# Altium footprint library Cypress Footprints.PcbLib: 193 footprints (part 7 of 13)
Each footprint in its own frame and in the unit in brackets; x right, y up, seen from the top. Pads: shape width x height; smd on the part's side, far side on the other; paste and mask are expansions set on the pad; w line width, h text height; cw(c..) or ccw(c..) is an arc to the next point about the centre after c.
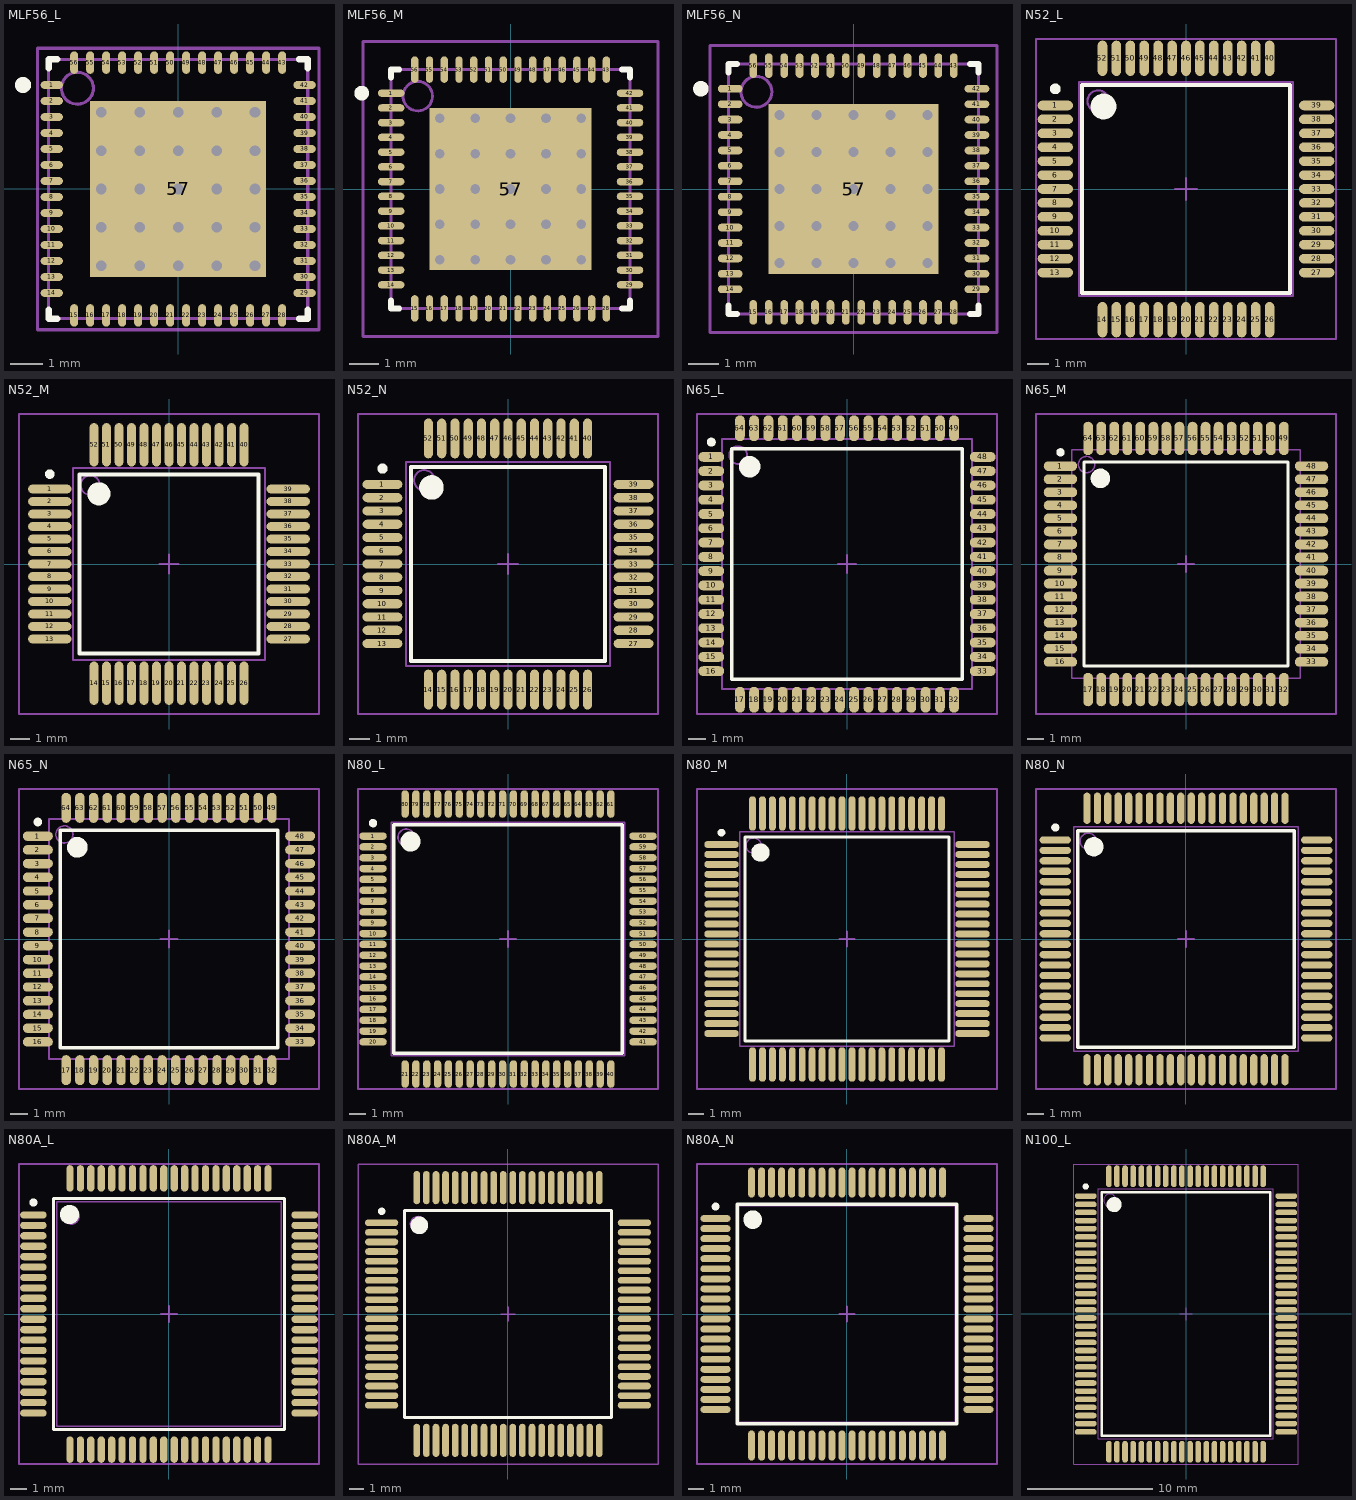
[diagram p6: the footprints below, top view; thin cyan lines are the x and y axes]

## MLF56_L [mm] "56-Pin Punch Version Quad Flat No-Lead 0.5 mm Pitch, IPC High Density"
height 1
pads (57):
  oval 0.7x0.25 smd: 1(-3.95,3.25) 2(-3.95,2.75) 3(-3.95,2.25) 4(-3.95,1.75) 5(-3.95,1.25) 6(-3.95,0.75) 7(-3.95,0.25) 8(-3.95,-0.25) 9(-3.95,-0.75) 10(-3.95,-1.25) 11(-3.95,-1.75) 12(-3.95,-2.25) 13(-3.95,-2.75) 14(-3.95,-3.25) 29(3.95,-3.25) 30(3.95,-2.75) 31(3.95,-2.25) 32(3.95,-1.75) 33(3.95,-1.25) 34(3.95,-0.75) 35(3.95,-0.25) 36(3.95,0.25) 37(3.95,0.75) 38(3.95,1.25) 39(3.95,1.75) 40(3.95,2.25) 41(3.95,2.75) 42(3.95,3.25)
  oval 0.25x0.7 smd: 15(-3.25,-3.95) 16(-2.75,-3.95) 17(-2.25,-3.95) 18(-1.75,-3.95) 19(-1.25,-3.95) 20(-0.75,-3.95) 21(-0.25,-3.95) 22(0.25,-3.95) 23(0.75,-3.95) 24(1.25,-3.95) 25(1.75,-3.95) 26(2.25,-3.95) 27(2.75,-3.95) 28(3.25,-3.95) 43(3.25,3.95) 44(2.75,3.95) 45(2.25,3.95) 46(1.75,3.95) 47(1.25,3.95) 48(0.75,3.95) 49(0.25,3.95) 50(-0.25,3.95) 51(-0.75,3.95) 52(-1.25,3.95) 53(-1.75,3.95) 54(-2.25,3.95) 55(-2.75,3.95) 56(-3.25,3.95)
  rect 5.5x5.5 smd: 57(0,0)
via 2.4,-2.4 diameter 0.66 hole 0.33
via 1.2,-2.4 diameter 0.66 hole 0.33
via 0,-2.4 diameter 0.66 hole 0.33
via -1.2,-2.4 diameter 0.66 hole 0.33
via -2.4,-2.4 diameter 0.66 hole 0.33
via 2.4,-1.2 diameter 0.66 hole 0.33
via 1.2,-1.2 diameter 0.66 hole 0.33
via 0,-1.2 diameter 0.66 hole 0.33
via -1.2,-1.2 diameter 0.66 hole 0.33
via -2.4,-1.2 diameter 0.66 hole 0.33
via 2.4,0 diameter 0.66 hole 0.33
via 1.2,0 diameter 0.66 hole 0.33
via 0,0 diameter 0.66 hole 0.33
via -1.2,0 diameter 0.66 hole 0.33
via -2.4,0 diameter 0.66 hole 0.33
via 2.4,1.2 diameter 0.66 hole 0.33
via 1.2,1.2 diameter 0.66 hole 0.33
via 0,1.2 diameter 0.66 hole 0.33
via -1.2,1.2 diameter 0.66 hole 0.33
via -2.4,1.2 diameter 0.66 hole 0.33
via 2.4,2.4 diameter 0.66 hole 0.33
via 1.2,2.4 diameter 0.66 hole 0.33
via 0,2.4 diameter 0.66 hole 0.33
via -1.2,2.4 diameter 0.66 hole 0.33
via -2.4,2.4 diameter 0.66 hole 0.33
Top Overlay:
  circle w0.25: c-4.85,3.25 r0.125
  lines w0.2: -4.05,-3.775 -4.05,-4.05 -3.775,-4.05 ; -4.05,3.775 -4.05,4.05 -3.775,4.05 ; 3.775,-4.05 4.05,-4.05 4.05,-3.775 ; 3.775,4.05 4.05,4.05 4.05,3.775
Mechanical 13:
  circle w0.1: c-3.15,3.15 r0.5
  lines w0.1: -4.05,-4.05 4.05,-4.05 4.05,4.05 -4.05,4.05 -4.05,-4.05
Mechanical 15:
  lines w0.1: -0.5,0 0.5,0 ; 0,-0.5 0,0.5 ; -4.4,-4.4 4.4,-4.4 4.4,4.4 -4.4,4.4 -4.4,-4.4
3D body: height 1, standoff 0, extent -4.05,-4.05 4.05,4.05

## MLF56_M [mm] "56-Pin Punch Version Quad Flat No-Lead 0.5 mm Pitch, IPC Low Density"
height 1
pads (57):
  oval 0.9x0.25 smd: 1(-4.05,3.25) 2(-4.05,2.75) 3(-4.05,2.25) 4(-4.05,1.75) 5(-4.05,1.25) 6(-4.05,0.75) 7(-4.05,0.25) 8(-4.05,-0.25) 9(-4.05,-0.75) 10(-4.05,-1.25) 11(-4.05,-1.75) 12(-4.05,-2.25) 13(-4.05,-2.75) 14(-4.05,-3.25) 29(4.05,-3.25) 30(4.05,-2.75) 31(4.05,-2.25) 32(4.05,-1.75) 33(4.05,-1.25) 34(4.05,-0.75) 35(4.05,-0.25) 36(4.05,0.25) 37(4.05,0.75) 38(4.05,1.25) 39(4.05,1.75) 40(4.05,2.25) 41(4.05,2.75) 42(4.05,3.25)
  oval 0.25x0.9 smd: 15(-3.25,-4.05) 16(-2.75,-4.05) 17(-2.25,-4.05) 18(-1.75,-4.05) 19(-1.25,-4.05) 20(-0.75,-4.05) 21(-0.25,-4.05) 22(0.25,-4.05) 23(0.75,-4.05) 24(1.25,-4.05) 25(1.75,-4.05) 26(2.25,-4.05) 27(2.75,-4.05) 28(3.25,-4.05) 43(3.25,4.05) 44(2.75,4.05) 45(2.25,4.05) 46(1.75,4.05) 47(1.25,4.05) 48(0.75,4.05) 49(0.25,4.05) 50(-0.25,4.05) 51(-0.75,4.05) 52(-1.25,4.05) 53(-1.75,4.05) 54(-2.25,4.05) 55(-2.75,4.05) 56(-3.25,4.05)
  rect 5.5x5.5 smd: 57(0,0)
via 2.4,-2.4 diameter 0.66 hole 0.33
via 1.2,-2.4 diameter 0.66 hole 0.33
via 0,-2.4 diameter 0.66 hole 0.33
via -1.2,-2.4 diameter 0.66 hole 0.33
via -2.4,-2.4 diameter 0.66 hole 0.33
via 2.4,-1.2 diameter 0.66 hole 0.33
via 1.2,-1.2 diameter 0.66 hole 0.33
via 0,-1.2 diameter 0.66 hole 0.33
via -1.2,-1.2 diameter 0.66 hole 0.33
via -2.4,-1.2 diameter 0.66 hole 0.33
via 2.4,0 diameter 0.66 hole 0.33
via 1.2,0 diameter 0.66 hole 0.33
via 0,0 diameter 0.66 hole 0.33
via -1.2,0 diameter 0.66 hole 0.33
via -2.4,0 diameter 0.66 hole 0.33
via 2.4,1.2 diameter 0.66 hole 0.33
via 1.2,1.2 diameter 0.66 hole 0.33
via 0,1.2 diameter 0.66 hole 0.33
via -1.2,1.2 diameter 0.66 hole 0.33
via -2.4,1.2 diameter 0.66 hole 0.33
via 2.4,2.4 diameter 0.66 hole 0.33
via 1.2,2.4 diameter 0.66 hole 0.33
via 0,2.4 diameter 0.66 hole 0.33
via -1.2,2.4 diameter 0.66 hole 0.33
via -2.4,2.4 diameter 0.66 hole 0.33
Top Overlay:
  circle w0.25: c-5.05,3.25 r0.125
  lines w0.2: -4.05,-3.775 -4.05,-4.05 -3.775,-4.05 ; -4.05,3.775 -4.05,4.05 -3.775,4.05 ; 3.775,-4.05 4.05,-4.05 4.05,-3.775 ; 3.775,4.05 4.05,4.05 4.05,3.775
Mechanical 13:
  circle w0.1: c-3.15,3.15 r0.5
  lines w0.1: -4.05,-4.05 4.05,-4.05 4.05,4.05 -4.05,4.05 -4.05,-4.05
Mechanical 15:
  lines w0.1: -0.5,0 0.5,0 ; 0,-0.5 0,0.5 ; -5,-5 5,-5 5,5 -5,5 -5,-5
3D body: height 1, standoff 0, extent -4.05,-4.05 4.05,4.05

## MLF56_N [mm] "56-Pin Punch Version Quad Flat No-Lead 0.5 mm Pitch, IPC Medium Density"
height 1
pads (57):
  oval 0.8x0.25 smd: 1(-4,3.25) 2(-4,2.75) 3(-4,2.25) 4(-4,1.75) 5(-4,1.25) 6(-4,0.75) 7(-4,0.25) 8(-4,-0.25) 9(-4,-0.75) 10(-4,-1.25) 11(-4,-1.75) 12(-4,-2.25) 13(-4,-2.75) 14(-4,-3.25) 29(4,-3.25) 30(4,-2.75) 31(4,-2.25) 32(4,-1.75) 33(4,-1.25) 34(4,-0.75) 35(4,-0.25) 36(4,0.25) 37(4,0.75) 38(4,1.25) 39(4,1.75) 40(4,2.25) 41(4,2.75) 42(4,3.25)
  oval 0.25x0.8 smd: 15(-3.25,-4) 16(-2.75,-4) 17(-2.25,-4) 18(-1.75,-4) 19(-1.25,-4) 20(-0.75,-4) 21(-0.25,-4) 22(0.25,-4) 23(0.75,-4) 24(1.25,-4) 25(1.75,-4) 26(2.25,-4) 27(2.75,-4) 28(3.25,-4) 43(3.25,4) 44(2.75,4) 45(2.25,4) 46(1.75,4) 47(1.25,4) 48(0.75,4) 49(0.25,4) 50(-0.25,4) 51(-0.75,4) 52(-1.25,4) 53(-1.75,4) 54(-2.25,4) 55(-2.75,4) 56(-3.25,4)
  rect 5.5x5.5 smd: 57(0,0)
via 2.4,-2.4 diameter 0.66 hole 0.33
via 1.2,-2.4 diameter 0.66 hole 0.33
via 0,-2.4 diameter 0.66 hole 0.33
via -1.2,-2.4 diameter 0.66 hole 0.33
via -2.4,-2.4 diameter 0.66 hole 0.33
via 2.4,-1.2 diameter 0.66 hole 0.33
via 1.2,-1.2 diameter 0.66 hole 0.33
via 0,-1.2 diameter 0.66 hole 0.33
via -1.2,-1.2 diameter 0.66 hole 0.33
via -2.4,-1.2 diameter 0.66 hole 0.33
via 2.4,0 diameter 0.66 hole 0.33
via 1.2,0 diameter 0.66 hole 0.33
via 0,0 diameter 0.66 hole 0.33
via -1.2,0 diameter 0.66 hole 0.33
via -2.4,0 diameter 0.66 hole 0.33
via 2.4,1.2 diameter 0.66 hole 0.33
via 1.2,1.2 diameter 0.66 hole 0.33
via 0,1.2 diameter 0.66 hole 0.33
via -1.2,1.2 diameter 0.66 hole 0.33
via -2.4,1.2 diameter 0.66 hole 0.33
via 2.4,2.4 diameter 0.66 hole 0.33
via 1.2,2.4 diameter 0.66 hole 0.33
via 0,2.4 diameter 0.66 hole 0.33
via -1.2,2.4 diameter 0.66 hole 0.33
via -2.4,2.4 diameter 0.66 hole 0.33
Top Overlay:
  circle w0.25: c-4.95,3.25 r0.125
  lines w0.2: -4.05,-3.775 -4.05,-4.05 -3.775,-4.05 ; -4.05,3.775 -4.05,4.05 -3.775,4.05 ; 3.775,-4.05 4.05,-4.05 4.05,-3.775 ; 3.775,4.05 4.05,4.05 4.05,3.775
Mechanical 13:
  circle w0.1: c-3.15,3.15 r0.5
  lines w0.1: -4.05,-4.05 4.05,-4.05 4.05,4.05 -4.05,4.05 -4.05,-4.05
Mechanical 15:
  lines w0.1: -0.5,0 0.5,0 ; 0,-0.5 0,0.5 ; -4.65,-4.65 4.65,-4.65 4.65,4.65 -4.65,4.65 -4.65,-4.65
3D body: height 1, standoff 0, extent -4.05,-4.05 4.05,4.05

## N52_L [mm] "52-Pin Plastic Quad Flat Pack 0.65 mm Pitch, IPC High Density"
height 2.45
pads (52):
  oval 1.65x0.45 smd: 1(-6.1,3.9) 2(-6.1,3.25) 3(-6.1,2.6) 4(-6.1,1.95) 5(-6.1,1.3) 6(-6.1,0.65) 7(-6.1,0) 8(-6.1,-0.65) 9(-6.1,-1.3) 10(-6.1,-1.95) 11(-6.1,-2.6) 12(-6.1,-3.25) 13(-6.1,-3.9) 27(6.1,-3.9) 28(6.1,-3.25) 29(6.1,-2.6) 30(6.1,-1.95) 31(6.1,-1.3) 32(6.1,-0.65) 33(6.1,0) 34(6.1,0.65) 35(6.1,1.3) 36(6.1,1.95) 37(6.1,2.6) 38(6.1,3.25) 39(6.1,3.9)
  oval 0.45x1.65 smd: 14(-3.9,-6.1) 15(-3.25,-6.1) 16(-2.6,-6.1) 17(-1.95,-6.1) 18(-1.3,-6.1) 19(-0.65,-6.1) 20(0,-6.1) 21(0.65,-6.1) 22(1.3,-6.1) 23(1.95,-6.1) 24(2.6,-6.1) 25(3.25,-6.1) 26(3.9,-6.1) 40(3.9,6.1) 41(3.25,6.1) 42(2.6,6.1) 43(1.95,6.1) 44(1.3,6.1) 45(0.65,6.1) 46(0,6.1) 47(-0.65,6.1) 48(-1.3,6.1) 49(-1.95,6.1) 50(-2.6,6.1) 51(-3.25,6.1) 52(-3.9,6.1)
Top Overlay:
  circle w0.6: c-3.85,3.85 r0.3
  circle w0.25: c-6.1,4.675 r0.125
  lines w0.2: -4.85,-4.85 4.85,-4.85 4.85,4.85 -4.85,4.85 -4.85,-4.85
Mechanical 13:
  circle w0.1: c-4.1,4.1 r0.5
  lines w0.1: -5,-5 5,-5 5,5 -5,5 -5,-5
Mechanical 15:
  lines w0.1: -0.5,0 0.5,0 ; 0,-0.5 0,0.5 ; -7,-7 7,-7 7,7 -7,7 -7,-7
3D body: height 2.45, standoff 0, extent -5,-5 5,5

## N52_M [mm] "52-Pin Plastic Quad Flat Pack 0.65 mm Pitch, IPC Low Density"
height 2.45
pads (52):
  oval 2.25x0.45 smd: 1(-6.2,3.9) 2(-6.2,3.25) 3(-6.2,2.6) 4(-6.2,1.95) 5(-6.2,1.3) 6(-6.2,0.65) 7(-6.2,0) 8(-6.2,-0.65) 9(-6.2,-1.3) 10(-6.2,-1.95) 11(-6.2,-2.6) 12(-6.2,-3.25) 13(-6.2,-3.9) 27(6.2,-3.9) 28(6.2,-3.25) 29(6.2,-2.6) 30(6.2,-1.95) 31(6.2,-1.3) 32(6.2,-0.65) 33(6.2,0) 34(6.2,0.65) 35(6.2,1.3) 36(6.2,1.95) 37(6.2,2.6) 38(6.2,3.25) 39(6.2,3.9)
  oval 0.45x2.25 smd: 14(-3.9,-6.2) 15(-3.25,-6.2) 16(-2.6,-6.2) 17(-1.95,-6.2) 18(-1.3,-6.2) 19(-0.65,-6.2) 20(0,-6.2) 21(0.65,-6.2) 22(1.3,-6.2) 23(1.95,-6.2) 24(2.6,-6.2) 25(3.25,-6.2) 26(3.9,-6.2) 40(3.9,6.2) 41(3.25,6.2) 42(2.6,6.2) 43(1.95,6.2) 44(1.3,6.2) 45(0.65,6.2) 46(0,6.2) 47(-0.65,6.2) 48(-1.3,6.2) 49(-1.95,6.2) 50(-2.6,6.2) 51(-3.25,6.2) 52(-3.9,6.2)
Top Overlay:
  circle w0.6: c-3.65,3.65 r0.3
  circle w0.25: c-6.2,4.675 r0.125
  lines w0.2: -4.65,-4.65 4.65,-4.65 4.65,4.65 -4.65,4.65 -4.65,-4.65
Mechanical 13:
  circle w0.1: c-4.1,4.1 r0.5
  lines w0.1: -5,-5 5,-5 5,5 -5,5 -5,-5
Mechanical 15:
  lines w0.1: -0.5,0 0.5,0 ; 0,-0.5 0,0.5 ; -7.8,-7.8 7.8,-7.8 7.8,7.8 -7.8,7.8 -7.8,-7.8
3D body: height 2.45, standoff 0, extent -5,-5 5,5

## N52_N [mm] "52-Pin Plastic Quad Flat Pack 0.65 mm Pitch, IPC Medium Density"
height 2.45
pads (52):
  oval 1.95x0.45 smd: 1(-6.15,3.9) 2(-6.15,3.25) 3(-6.15,2.6) 4(-6.15,1.95) 5(-6.15,1.3) 6(-6.15,0.65) 7(-6.15,0) 8(-6.15,-0.65) 9(-6.15,-1.3) 10(-6.15,-1.95) 11(-6.15,-2.6) 12(-6.15,-3.25) 13(-6.15,-3.9) 27(6.15,-3.9) 28(6.15,-3.25) 29(6.15,-2.6) 30(6.15,-1.95) 31(6.15,-1.3) 32(6.15,-0.65) 33(6.15,0) 34(6.15,0.65) 35(6.15,1.3) 36(6.15,1.95) 37(6.15,2.6) 38(6.15,3.25) 39(6.15,3.9)
  oval 0.45x1.95 smd: 14(-3.9,-6.15) 15(-3.25,-6.15) 16(-2.6,-6.15) 17(-1.95,-6.15) 18(-1.3,-6.15) 19(-0.65,-6.15) 20(0,-6.15) 21(0.65,-6.15) 22(1.3,-6.15) 23(1.95,-6.15) 24(2.6,-6.15) 25(3.25,-6.15) 26(3.9,-6.15) 40(3.9,6.15) 41(3.25,6.15) 42(2.6,6.15) 43(1.95,6.15) 44(1.3,6.15) 45(0.65,6.15) 46(0,6.15) 47(-0.65,6.15) 48(-1.3,6.15) 49(-1.95,6.15) 50(-2.6,6.15) 51(-3.25,6.15) 52(-3.9,6.15)
Top Overlay:
  circle w0.6: c-3.75,3.75 r0.3
  circle w0.25: c-6.15,4.675 r0.125
  lines w0.2: -4.75,-4.75 4.75,-4.75 4.75,4.75 -4.75,4.75 -4.75,-4.75
Mechanical 13:
  circle w0.1: c-4.1,4.1 r0.5
  lines w0.1: -5,-5 5,-5 5,5 -5,5 -5,-5
Mechanical 15:
  lines w0.1: -0.5,0 0.5,0 ; 0,-0.5 0,0.5 ; -7.35,-7.35 7.35,-7.35 7.35,7.35 -7.35,7.35 -7.35,-7.35
3D body: height 2.45, standoff 0, extent -5,-5 5,5

## N65_L [mm] "64-Pin Thin Plastic Quad Flat Pack 0.8 mm Pitch, IPC High Density"
height 1.6
pads (64):
  oval 1.45x0.55 smd: 1(-7.6,6) 2(-7.6,5.2) 3(-7.6,4.4) 4(-7.6,3.6) 5(-7.6,2.8) 6(-7.6,2) 7(-7.6,1.2) 8(-7.6,0.4) 9(-7.6,-0.4) 10(-7.6,-1.2) 11(-7.6,-2) 12(-7.6,-2.8) 13(-7.6,-3.6) 14(-7.6,-4.4) 15(-7.6,-5.2) 16(-7.6,-6) 33(7.6,-6) 34(7.6,-5.2) 35(7.6,-4.4) 36(7.6,-3.6) 37(7.6,-2.8) 38(7.6,-2) 39(7.6,-1.2) 40(7.6,-0.4) 41(7.6,0.4) 42(7.6,1.2) 43(7.6,2) 44(7.6,2.8) 45(7.6,3.6) 46(7.6,4.4) 47(7.6,5.2) 48(7.6,6)
  oval 0.55x1.45 smd: 17(-6,-7.6) 18(-5.2,-7.6) 19(-4.4,-7.6) 20(-3.6,-7.6) 21(-2.8,-7.6) 22(-2,-7.6) 23(-1.2,-7.6) 24(-0.4,-7.6) 25(0.4,-7.6) 26(1.2,-7.6) 27(2,-7.6) 28(2.8,-7.6) 29(3.6,-7.6) 30(4.4,-7.6) 31(5.2,-7.6) 32(6,-7.6) 49(6,7.6) 50(5.2,7.6) 51(4.4,7.6) 52(3.6,7.6) 53(2.8,7.6) 54(2,7.6) 55(1.2,7.6) 56(0.4,7.6) 57(-0.4,7.6) 58(-1.2,7.6) 59(-2,7.6) 60(-2.8,7.6) 61(-3.6,7.6) 62(-4.4,7.6) 63(-5.2,7.6) 64(-6,7.6)
Top Overlay:
  circle w0.6: c-5.45,5.45 r0.3
  circle w0.25: c-7.6,6.825 r0.125
  lines w0.2: -6.45,-6.45 6.45,-6.45 6.45,6.45 -6.45,6.45 -6.45,-6.45
Mechanical 13:
  circle w0.1: c-6.1,6.1 r0.5
  lines w0.1: -7,-7 7,-7 7,7 -7,7 -7,-7
Mechanical 15:
  lines w0.1: -0.5,0 0.5,0 ; 0,-0.5 0,0.5 ; -8.4,-8.4 8.4,-8.4 8.4,8.4 -8.4,8.4 -8.4,-8.4
3D body: height 1.6, standoff 0, extent -7,-7 7,7

## N65_M [mm] "64-Pin Thin Plastic Quad Flat Pack 0.8 mm Pitch, IPC Low Density"
height 1.6
pads (64):
  oval 2.05x0.6 smd: 1(-7.7,6) 2(-7.7,5.2) 3(-7.7,4.4) 4(-7.7,3.6) 5(-7.7,2.8) 6(-7.7,2) 7(-7.7,1.2) 8(-7.7,0.4) 9(-7.7,-0.4) 10(-7.7,-1.2) 11(-7.7,-2) 12(-7.7,-2.8) 13(-7.7,-3.6) 14(-7.7,-4.4) 15(-7.7,-5.2) 16(-7.7,-6) 33(7.7,-6) 34(7.7,-5.2) 35(7.7,-4.4) 36(7.7,-3.6) 37(7.7,-2.8) 38(7.7,-2) 39(7.7,-1.2) 40(7.7,-0.4) 41(7.7,0.4) 42(7.7,1.2) 43(7.7,2) 44(7.7,2.8) 45(7.7,3.6) 46(7.7,4.4) 47(7.7,5.2) 48(7.7,6)
  oval 0.6x2.05 smd: 17(-6,-7.7) 18(-5.2,-7.7) 19(-4.4,-7.7) 20(-3.6,-7.7) 21(-2.8,-7.7) 22(-2,-7.7) 23(-1.2,-7.7) 24(-0.4,-7.7) 25(0.4,-7.7) 26(1.2,-7.7) 27(2,-7.7) 28(2.8,-7.7) 29(3.6,-7.7) 30(4.4,-7.7) 31(5.2,-7.7) 32(6,-7.7) 49(6,7.7) 50(5.2,7.7) 51(4.4,7.7) 52(3.6,7.7) 53(2.8,7.7) 54(2,7.7) 55(1.2,7.7) 56(0.4,7.7) 57(-0.4,7.7) 58(-1.2,7.7) 59(-2,7.7) 60(-2.8,7.7) 61(-3.6,7.7) 62(-4.4,7.7) 63(-5.2,7.7) 64(-6,7.7)
Top Overlay:
  circle w0.6: c-5.25,5.25 r0.3
  circle w0.25: c-7.7,6.85 r0.125
  lines w0.2: -6.25,-6.25 6.25,-6.25 6.25,6.25 -6.25,6.25 -6.25,-6.25
Mechanical 13:
  circle w0.1: c-6.1,6.1 r0.5
  lines w0.1: -7,-7 7,-7 7,7 -7,7 -7,-7
Mechanical 15:
  lines w0.1: -0.5,0 0.5,0 ; 0,-0.5 0,0.5 ; -9.2,-9.2 9.2,-9.2 9.2,9.2 -9.2,9.2 -9.2,-9.2
3D body: height 1.6, standoff 0, extent -7,-7 7,7

## N65_N [mm] "64-Pin Thin Plastic Quad Flat Pack 0.8 mm Pitch, IPC Medium Density"
height 1.6
pads (64):
  oval 1.75x0.55 smd: 1(-7.65,6) 2(-7.65,5.2) 3(-7.65,4.4) 4(-7.65,3.6) 5(-7.65,2.8) 6(-7.65,2) 7(-7.65,1.2) 8(-7.65,0.4) 9(-7.65,-0.4) 10(-7.65,-1.2) 11(-7.65,-2) 12(-7.65,-2.8) 13(-7.65,-3.6) 14(-7.65,-4.4) 15(-7.65,-5.2) 16(-7.65,-6) 33(7.65,-6) 34(7.65,-5.2) 35(7.65,-4.4) 36(7.65,-3.6) 37(7.65,-2.8) 38(7.65,-2) 39(7.65,-1.2) 40(7.65,-0.4) 41(7.65,0.4) 42(7.65,1.2) 43(7.65,2) 44(7.65,2.8) 45(7.65,3.6) 46(7.65,4.4) 47(7.65,5.2) 48(7.65,6)
  oval 0.55x1.75 smd: 17(-6,-7.65) 18(-5.2,-7.65) 19(-4.4,-7.65) 20(-3.6,-7.65) 21(-2.8,-7.65) 22(-2,-7.65) 23(-1.2,-7.65) 24(-0.4,-7.65) 25(0.4,-7.65) 26(1.2,-7.65) 27(2,-7.65) 28(2.8,-7.65) 29(3.6,-7.65) 30(4.4,-7.65) 31(5.2,-7.65) 32(6,-7.65) 49(6,7.65) 50(5.2,7.65) 51(4.4,7.65) 52(3.6,7.65) 53(2.8,7.65) 54(2,7.65) 55(1.2,7.65) 56(0.4,7.65) 57(-0.4,7.65) 58(-1.2,7.65) 59(-2,7.65) 60(-2.8,7.65) 61(-3.6,7.65) 62(-4.4,7.65) 63(-5.2,7.65) 64(-6,7.65)
Top Overlay:
  circle w0.25: c-7.65,6.825 r0.125
  circle w0.6: c-5.35,5.35 r0.3
  lines w0.2: -6.35,-6.35 -6.35,6.35 6.35,6.35 6.35,-6.35 -6.35,-6.35
Mechanical 13:
  circle w0.1: c-6.1,6.1 r0.5
  lines w0.1: -7,-7 -7,7 7,7 7,-7 -7,-7
Mechanical 15:
  lines w0.1: -0.5,0 0.5,0 ; 0,-0.5 0,0.5 ; -8.75,-8.75 -8.75,8.75 8.75,8.75 8.75,-8.75 -8.75,-8.75
3D body: height 1.6, standoff 0, extent -7,-7 7,7

## N80_L [mm] "80-Pin Plastic Quad Flat Pack 0.65 mm Pitch, IPC High Density"
height 2.45
pads (80):
  oval 1.65x0.45 smd: 1(-8.1,6.175) 2(-8.1,5.525) 3(-8.1,4.875) 4(-8.1,4.225) 5(-8.1,3.575) 6(-8.1,2.925) 7(-8.1,2.275) 8(-8.1,1.625) 9(-8.1,0.975) 10(-8.1,0.325) 11(-8.1,-0.325) 12(-8.1,-0.975) 13(-8.1,-1.625) 14(-8.1,-2.275) 15(-8.1,-2.925) 16(-8.1,-3.575) 17(-8.1,-4.225) 18(-8.1,-4.875) 19(-8.1,-5.525) 20(-8.1,-6.175) 41(8.1,-6.175) 42(8.1,-5.525) 43(8.1,-4.875) 44(8.1,-4.225) 45(8.1,-3.575) 46(8.1,-2.925) 47(8.1,-2.275) 48(8.1,-1.625) 49(8.1,-0.975) 50(8.1,-0.325) 51(8.1,0.325) 52(8.1,0.975) 53(8.1,1.625) 54(8.1,2.275) 55(8.1,2.925) 56(8.1,3.575) 57(8.1,4.225) 58(8.1,4.875) 59(8.1,5.525) 60(8.1,6.175)
  oval 0.45x1.65 smd: 21(-6.175,-8.1) 22(-5.525,-8.1) 23(-4.875,-8.1) 24(-4.225,-8.1) 25(-3.575,-8.1) 26(-2.925,-8.1) 27(-2.275,-8.1) 28(-1.625,-8.1) 29(-0.975,-8.1) 30(-0.325,-8.1) 31(0.325,-8.1) 32(0.975,-8.1) 33(1.625,-8.1) 34(2.275,-8.1) 35(2.925,-8.1) 36(3.575,-8.1) 37(4.225,-8.1) 38(4.875,-8.1) 39(5.525,-8.1) 40(6.175,-8.1) 61(6.175,8.1) 62(5.525,8.1) 63(4.875,8.1) 64(4.225,8.1) 65(3.575,8.1) 66(2.925,8.1) 67(2.275,8.1) 68(1.625,8.1) 69(0.975,8.1) 70(0.325,8.1) 71(-0.325,8.1) 72(-0.975,8.1) 73(-1.625,8.1) 74(-2.275,8.1) 75(-2.925,8.1) 76(-3.575,8.1) 77(-4.225,8.1) 78(-4.875,8.1) 79(-5.525,8.1) 80(-6.175,8.1)
Top Overlay:
  circle w0.6: c-5.85,5.85 r0.3
  circle w0.25: c-8.1,6.95 r0.125
  lines w0.2: -6.85,-6.85 6.85,-6.85 6.85,6.85 -6.85,6.85 -6.85,-6.85
Mechanical 13:
  circle w0.1: c-6.1,6.1 r0.5
  lines w0.1: -7,-7 7,-7 7,7 -7,7 -7,-7
Mechanical 15:
  lines w0.1: -0.5,0 0.5,0 ; 0,-0.5 0,0.5 ; -9,-9 9,-9 9,9 -9,9 -9,-9
3D body: height 2.45, standoff 0, extent -7,-7 7,7

## N80_M [mm] "80-Pin Plastic Quad Flat Pack 0.65 mm Pitch, IPC Low Density"
height 2.45
pads (80):
  oval 2.25x0.45 smd: 1(-8.2,6.175) 2(-8.2,5.525) 3(-8.2,4.875) 4(-8.2,4.225) 5(-8.2,3.575) 6(-8.2,2.925) 7(-8.2,2.275) 8(-8.2,1.625) 9(-8.2,0.975) 10(-8.2,0.325) 11(-8.2,-0.325) 12(-8.2,-0.975) 13(-8.2,-1.625) 14(-8.2,-2.275) 15(-8.2,-2.925) 16(-8.2,-3.575) 17(-8.2,-4.225) 18(-8.2,-4.875) 19(-8.2,-5.525) 20(-8.2,-6.175) 41(8.2,-6.175) 42(8.2,-5.525) 43(8.2,-4.875) 44(8.2,-4.225) 45(8.2,-3.575) 46(8.2,-2.925) 47(8.2,-2.275) 48(8.2,-1.625) 49(8.2,-0.975) 50(8.2,-0.325) 51(8.2,0.325) 52(8.2,0.975) 53(8.2,1.625) 54(8.2,2.275) 55(8.2,2.925) 56(8.2,3.575) 57(8.2,4.225) 58(8.2,4.875) 59(8.2,5.525) 60(8.2,6.175)
  oval 0.45x2.25 smd: 21(-6.175,-8.2) 22(-5.525,-8.2) 23(-4.875,-8.2) 24(-4.225,-8.2) 25(-3.575,-8.2) 26(-2.925,-8.2) 27(-2.275,-8.2) 28(-1.625,-8.2) 29(-0.975,-8.2) 30(-0.325,-8.2) 31(0.325,-8.2) 32(0.975,-8.2) 33(1.625,-8.2) 34(2.275,-8.2) 35(2.925,-8.2) 36(3.575,-8.2) 37(4.225,-8.2) 38(4.875,-8.2) 39(5.525,-8.2) 40(6.175,-8.2) 61(6.175,8.2) 62(5.525,8.2) 63(4.875,8.2) 64(4.225,8.2) 65(3.575,8.2) 66(2.925,8.2) 67(2.275,8.2) 68(1.625,8.2) 69(0.975,8.2) 70(0.325,8.2) 71(-0.325,8.2) 72(-0.975,8.2) 73(-1.625,8.2) 74(-2.275,8.2) 75(-2.925,8.2) 76(-3.575,8.2) 77(-4.225,8.2) 78(-4.875,8.2) 79(-5.525,8.2) 80(-6.175,8.2)
Top Overlay:
  circle w0.6: c-5.65,5.65 r0.3
  circle w0.25: c-8.2,6.95 r0.125
  lines w0.2: -6.65,-6.65 6.65,-6.65 6.65,6.65 -6.65,6.65 -6.65,-6.65
Mechanical 13:
  circle w0.1: c-6.1,6.1 r0.5
  lines w0.1: -7,-7 7,-7 7,7 -7,7 -7,-7
Mechanical 15:
  lines w0.1: -0.5,0 0.5,0 ; 0,-0.5 0,0.5 ; -9.8,-9.8 9.8,-9.8 9.8,9.8 -9.8,9.8 -9.8,-9.8
3D body: height 2.45, standoff 0, extent -7,-7 7,7

## N80_N [mm] "80-Pin Plastic Quad Flat Pack 0.65 mm Pitch, IPC Medium Density"
height 2.45
pads (80):
  oval 1.95x0.45 smd: 1(-8.15,6.175) 2(-8.15,5.525) 3(-8.15,4.875) 4(-8.15,4.225) 5(-8.15,3.575) 6(-8.15,2.925) 7(-8.15,2.275) 8(-8.15,1.625) 9(-8.15,0.975) 10(-8.15,0.325) 11(-8.15,-0.325) 12(-8.15,-0.975) 13(-8.15,-1.625) 14(-8.15,-2.275) 15(-8.15,-2.925) 16(-8.15,-3.575) 17(-8.15,-4.225) 18(-8.15,-4.875) 19(-8.15,-5.525) 20(-8.15,-6.175) 41(8.15,-6.175) 42(8.15,-5.525) 43(8.15,-4.875) 44(8.15,-4.225) 45(8.15,-3.575) 46(8.15,-2.925) 47(8.15,-2.275) 48(8.15,-1.625) 49(8.15,-0.975) 50(8.15,-0.325) 51(8.15,0.325) 52(8.15,0.975) 53(8.15,1.625) 54(8.15,2.275) 55(8.15,2.925) 56(8.15,3.575) 57(8.15,4.225) 58(8.15,4.875) 59(8.15,5.525) 60(8.15,6.175)
  oval 0.45x1.95 smd: 21(-6.175,-8.15) 22(-5.525,-8.15) 23(-4.875,-8.15) 24(-4.225,-8.15) 25(-3.575,-8.15) 26(-2.925,-8.15) 27(-2.275,-8.15) 28(-1.625,-8.15) 29(-0.975,-8.15) 30(-0.325,-8.15) 31(0.325,-8.15) 32(0.975,-8.15) 33(1.625,-8.15) 34(2.275,-8.15) 35(2.925,-8.15) 36(3.575,-8.15) 37(4.225,-8.15) 38(4.875,-8.15) 39(5.525,-8.15) 40(6.175,-8.15) 61(6.175,8.15) 62(5.525,8.15) 63(4.875,8.15) 64(4.225,8.15) 65(3.575,8.15) 66(2.925,8.15) 67(2.275,8.15) 68(1.625,8.15) 69(0.975,8.15) 70(0.325,8.15) 71(-0.325,8.15) 72(-0.975,8.15) 73(-1.625,8.15) 74(-2.275,8.15) 75(-2.925,8.15) 76(-3.575,8.15) 77(-4.225,8.15) 78(-4.875,8.15) 79(-5.525,8.15) 80(-6.175,8.15)
Top Overlay:
  circle w0.6: c-5.75,5.75 r0.3
  circle w0.25: c-8.15,6.95 r0.125
  lines w0.2: -6.75,-6.75 6.75,-6.75 6.75,6.75 -6.75,6.75 -6.75,-6.75
Mechanical 13:
  circle w0.1: c-6.1,6.1 r0.5
  lines w0.1: -7,-7 7,-7 7,7 -7,7 -7,-7
Mechanical 15:
  lines w0.1: -0.5,0 0.5,0 ; 0,-0.5 0,0.5 ; -9.35,-9.35 9.35,-9.35 9.35,9.35 -9.35,9.35 -9.35,-9.35
3D body: height 2.45, standoff 0, extent -7,-7 7,7

## N80A_L [mm] "80-Pin Plastic Quad Flat Pack 0.65 mm Pitch, IPC High Density"
height 3.4
pads (80):
  oval 1.65x0.45 smd: 1(-8.45,6.175) 2(-8.45,5.525) 3(-8.45,4.875) 4(-8.45,4.225) 5(-8.45,3.575) 6(-8.45,2.925) 7(-8.45,2.275) 8(-8.45,1.625) 9(-8.45,0.975) 10(-8.45,0.325) 11(-8.45,-0.325) 12(-8.45,-0.975) 13(-8.45,-1.625) 14(-8.45,-2.275) 15(-8.45,-2.925) 16(-8.45,-3.575) 17(-8.45,-4.225) 18(-8.45,-4.875) 19(-8.45,-5.525) 20(-8.45,-6.175) 41(8.45,-6.175) 42(8.45,-5.525) 43(8.45,-4.875) 44(8.45,-4.225) 45(8.45,-3.575) 46(8.45,-2.925) 47(8.45,-2.275) 48(8.45,-1.625) 49(8.45,-0.975) 50(8.45,-0.325) 51(8.45,0.325) 52(8.45,0.975) 53(8.45,1.625) 54(8.45,2.275) 55(8.45,2.925) 56(8.45,3.575) 57(8.45,4.225) 58(8.45,4.875) 59(8.45,5.525) 60(8.45,6.175)
  oval 0.45x1.65 smd: 21(-6.175,-8.45) 22(-5.525,-8.45) 23(-4.875,-8.45) 24(-4.225,-8.45) 25(-3.575,-8.45) 26(-2.925,-8.45) 27(-2.275,-8.45) 28(-1.625,-8.45) 29(-0.975,-8.45) 30(-0.325,-8.45) 31(0.325,-8.45) 32(0.975,-8.45) 33(1.625,-8.45) 34(2.275,-8.45) 35(2.925,-8.45) 36(3.575,-8.45) 37(4.225,-8.45) 38(4.875,-8.45) 39(5.525,-8.45) 40(6.175,-8.45) 61(6.175,8.45) 62(5.525,8.45) 63(4.875,8.45) 64(4.225,8.45) 65(3.575,8.45) 66(2.925,8.45) 67(2.275,8.45) 68(1.625,8.45) 69(0.975,8.45) 70(0.325,8.45) 71(-0.325,8.45) 72(-0.975,8.45) 73(-1.625,8.45) 74(-2.275,8.45) 75(-2.925,8.45) 76(-3.575,8.45) 77(-4.225,8.45) 78(-4.875,8.45) 79(-5.525,8.45) 80(-6.175,8.45)
Top Overlay:
  circle w0.6: c-6.2,6.2 r0.3
  circle w0.25: c-8.45,6.95 r0.125
  lines w0.2: -7.2,-7.2 7.2,-7.2 7.2,7.2 -7.2,7.2 -7.2,-7.2
Mechanical 13:
  circle w0.1: c-6.1,6.1 r0.5
  lines w0.1: -7,-7 7,-7 7,7 -7,7 -7,-7
Mechanical 15:
  lines w0.1: -0.5,0 0.5,0 ; 0,-0.5 0,0.5 ; -9.35,-9.35 9.35,-9.35 9.35,9.35 -9.35,9.35 -9.35,-9.35
3D body: height 3.4, standoff 0, extent -7,-7 7,7

## N80A_M [mm] "80-Pin Plastic Quad Flat Pack 0.65 mm Pitch, IPC Low Density"
height 3.4
pads (80):
  oval 2.25x0.45 smd: 1(-8.55,6.175) 2(-8.55,5.525) 3(-8.55,4.875) 4(-8.55,4.225) 5(-8.55,3.575) 6(-8.55,2.925) 7(-8.55,2.275) 8(-8.55,1.625) 9(-8.55,0.975) 10(-8.55,0.325) 11(-8.55,-0.325) 12(-8.55,-0.975) 13(-8.55,-1.625) 14(-8.55,-2.275) 15(-8.55,-2.925) 16(-8.55,-3.575) 17(-8.55,-4.225) 18(-8.55,-4.875) 19(-8.55,-5.525) 20(-8.55,-6.175) 41(8.55,-6.175) 42(8.55,-5.525) 43(8.55,-4.875) 44(8.55,-4.225) 45(8.55,-3.575) 46(8.55,-2.925) 47(8.55,-2.275) 48(8.55,-1.625) 49(8.55,-0.975) 50(8.55,-0.325) 51(8.55,0.325) 52(8.55,0.975) 53(8.55,1.625) 54(8.55,2.275) 55(8.55,2.925) 56(8.55,3.575) 57(8.55,4.225) 58(8.55,4.875) 59(8.55,5.525) 60(8.55,6.175)
  oval 0.45x2.25 smd: 21(-6.175,-8.55) 22(-5.525,-8.55) 23(-4.875,-8.55) 24(-4.225,-8.55) 25(-3.575,-8.55) 26(-2.925,-8.55) 27(-2.275,-8.55) 28(-1.625,-8.55) 29(-0.975,-8.55) 30(-0.325,-8.55) 31(0.325,-8.55) 32(0.975,-8.55) 33(1.625,-8.55) 34(2.275,-8.55) 35(2.925,-8.55) 36(3.575,-8.55) 37(4.225,-8.55) 38(4.875,-8.55) 39(5.525,-8.55) 40(6.175,-8.55) 61(6.175,8.55) 62(5.525,8.55) 63(4.875,8.55) 64(4.225,8.55) 65(3.575,8.55) 66(2.925,8.55) 67(2.275,8.55) 68(1.625,8.55) 69(0.975,8.55) 70(0.325,8.55) 71(-0.325,8.55) 72(-0.975,8.55) 73(-1.625,8.55) 74(-2.275,8.55) 75(-2.925,8.55) 76(-3.575,8.55) 77(-4.225,8.55) 78(-4.875,8.55) 79(-5.525,8.55) 80(-6.175,8.55)
Top Overlay:
  circle w0.6: c-6,6 r0.3
  circle w0.25: c-8.55,6.95 r0.125
  lines w0.2: -7,-7 7,-7 7,7 -7,7 -7,-7
Mechanical 13:
  circle w0.1: c-6.1,6.1 r0.5
  lines w0.1: -7,-7 7,-7 7,7 -7,7 -7,-7
Mechanical 15:
  lines w0.1: -0.5,0 0.5,0 ; 0,-0.5 0,0.5 ; -10.15,-10.15 10.15,-10.15 10.15,10.15 -10.15,10.15 -10.15,-10.15
3D body: height 3.4, standoff 0, extent -7,-7 7,7

## N80A_N [mm] "80-Pin Plastic Quad Flat Pack 0.65 mm Pitch, IPC Medium Density"
height 3.4
pads (80):
  oval 1.95x0.45 smd: 1(-8.5,6.175) 2(-8.5,5.525) 3(-8.5,4.875) 4(-8.5,4.225) 5(-8.5,3.575) 6(-8.5,2.925) 7(-8.5,2.275) 8(-8.5,1.625) 9(-8.5,0.975) 10(-8.5,0.325) 11(-8.5,-0.325) 12(-8.5,-0.975) 13(-8.5,-1.625) 14(-8.5,-2.275) 15(-8.5,-2.925) 16(-8.5,-3.575) 17(-8.5,-4.225) 18(-8.5,-4.875) 19(-8.5,-5.525) 20(-8.5,-6.175) 41(8.5,-6.175) 42(8.5,-5.525) 43(8.5,-4.875) 44(8.5,-4.225) 45(8.5,-3.575) 46(8.5,-2.925) 47(8.5,-2.275) 48(8.5,-1.625) 49(8.5,-0.975) 50(8.5,-0.325) 51(8.5,0.325) 52(8.5,0.975) 53(8.5,1.625) 54(8.5,2.275) 55(8.5,2.925) 56(8.5,3.575) 57(8.5,4.225) 58(8.5,4.875) 59(8.5,5.525) 60(8.5,6.175)
  oval 0.45x1.95 smd: 21(-6.175,-8.5) 22(-5.525,-8.5) 23(-4.875,-8.5) 24(-4.225,-8.5) 25(-3.575,-8.5) 26(-2.925,-8.5) 27(-2.275,-8.5) 28(-1.625,-8.5) 29(-0.975,-8.5) 30(-0.325,-8.5) 31(0.325,-8.5) 32(0.975,-8.5) 33(1.625,-8.5) 34(2.275,-8.5) 35(2.925,-8.5) 36(3.575,-8.5) 37(4.225,-8.5) 38(4.875,-8.5) 39(5.525,-8.5) 40(6.175,-8.5) 61(6.175,8.5) 62(5.525,8.5) 63(4.875,8.5) 64(4.225,8.5) 65(3.575,8.5) 66(2.925,8.5) 67(2.275,8.5) 68(1.625,8.5) 69(0.975,8.5) 70(0.325,8.5) 71(-0.325,8.5) 72(-0.975,8.5) 73(-1.625,8.5) 74(-2.275,8.5) 75(-2.925,8.5) 76(-3.575,8.5) 77(-4.225,8.5) 78(-4.875,8.5) 79(-5.525,8.5) 80(-6.175,8.5)
Top Overlay:
  circle w0.6: c-6.1,6.1 r0.3
  circle w0.25: c-8.5,6.95 r0.125
  lines w0.2: -7.1,-7.1 7.1,-7.1 7.1,7.1 -7.1,7.1 -7.1,-7.1
Mechanical 13:
  circle w0.1: c-6.1,6.1 r0.5
  lines w0.1: -7,-7 7,-7 7,7 -7,7 -7,-7
Mechanical 15:
  lines w0.1: -0.5,0 0.5,0 ; 0,-0.5 0,0.5 ; -9.7,-9.7 9.7,-9.7 9.7,9.7 -9.7,9.7 -9.7,-9.7
3D body: height 3.4, standoff 0, extent -7,-7 7,7

## N100_L [mm] "100-Pin Plastic Quad Flat Pack Rectangular 0.65 mm Pitch, IPC High Density"
height 3.4
pads (100):
  oval 1.75x0.45 smd: 1(-8.025,9.425) 2(-8.025,8.775) 3(-8.025,8.125) 4(-8.025,7.475) 5(-8.025,6.825) 6(-8.025,6.175) 7(-8.025,5.525) 8(-8.025,4.875) 9(-8.025,4.225) 10(-8.025,3.575) 11(-8.025,2.925) 12(-8.025,2.275) 13(-8.025,1.625) 14(-8.025,0.975) 15(-8.025,0.325) 16(-8.025,-0.325) 17(-8.025,-0.975) 18(-8.025,-1.625) 19(-8.025,-2.275) 20(-8.025,-2.925) 21(-8.025,-3.575) 22(-8.025,-4.225) 23(-8.025,-4.875) 24(-8.025,-5.525) 25(-8.025,-6.175) 26(-8.025,-6.825) 27(-8.025,-7.475) 28(-8.025,-8.125) 29(-8.025,-8.775) 30(-8.025,-9.425) 51(8.025,-9.425) 52(8.025,-8.775) 53(8.025,-8.125) 54(8.025,-7.475) 55(8.025,-6.825) 56(8.025,-6.175) 57(8.025,-5.525) 58(8.025,-4.875) 59(8.025,-4.225) 60(8.025,-3.575) 61(8.025,-2.925) 62(8.025,-2.275) 63(8.025,-1.625) 64(8.025,-0.975) 65(8.025,-0.325) 66(8.025,0.325) 67(8.025,0.975) 68(8.025,1.625) 69(8.025,2.275) 70(8.025,2.925) 71(8.025,3.575) 72(8.025,4.225) 73(8.025,4.875) 74(8.025,5.525) 75(8.025,6.175) 76(8.025,6.825) 77(8.025,7.475) 78(8.025,8.125) 79(8.025,8.775) 80(8.025,9.425)
  oval 0.45x1.75 smd: 31(-6.175,-11.025) 32(-5.525,-11.025) 33(-4.875,-11.025) 34(-4.225,-11.025) 35(-3.575,-11.025) 36(-2.925,-11.025) 37(-2.275,-11.025) 38(-1.625,-11.025) 39(-0.975,-11.025) 40(-0.325,-11.025) 41(0.325,-11.025) 42(0.975,-11.025) 43(1.625,-11.025) 44(2.275,-11.025) 45(2.925,-11.025) 46(3.575,-11.025) 47(4.225,-11.025) 48(4.875,-11.025) 49(5.525,-11.025) 50(6.175,-11.025) 81(6.175,11.025) 82(5.525,11.025) 83(4.875,11.025) 84(4.225,11.025) 85(3.575,11.025) 86(2.925,11.025) 87(2.275,11.025) 88(1.625,11.025) 89(0.975,11.025) 90(0.325,11.025) 91(-0.325,11.025) 92(-0.975,11.025) 93(-1.625,11.025) 94(-2.275,11.025) 95(-2.925,11.025) 96(-3.575,11.025) 97(-4.225,11.025) 98(-4.875,11.025) 99(-5.525,11.025) 100(-6.175,11.025)
Top Overlay:
  circle w0.6: c-5.75,8.75 r0.3
  circle w0.25: c-8.025,10.2 r0.125
  lines w0.2: -6.75,-9.75 6.75,-9.75 6.75,9.75 -6.75,9.75 -6.75,-9.75
Mechanical 13:
  circle w0.1: c-6.1,9.1 r0.5
  lines w0.1: -7,-10 7,-10 7,10 -7,10 -7,-10
Mechanical 15:
  lines w0.1: -0.5,0 0.5,0 ; 0,-0.5 0,0.5 ; -9,-12 9,-12 9,12 -9,12 -9,-12
3D body: height 3.4, standoff 0, extent -7,-10 7,10